# EAGLE library part GPS-FGPMMOPA6C (library gps-gsm)
The FGPMMOPA6E is a revision of PA6 POT (Patch On Top) GPS Module with an extra embedded function for external antenna I/O and comes with automatic antenna switching function and short circuit protection. This POT GPS receiver uses internal patch antenna and will automatically detect and switch over to external antenna for GPS reception once a connection to external antenna is made. In addition, the module itself is protected from short circuits to the external antenna. PA6E is high in position and speed accuracy as well as being high in sensitivity with excellent tracking capabilities in urban conditions. The GPS chipset inside the module is powered by MediaTek Inc., and can support up to 66 channels. The module is suitable for every GPS‐related application such as:
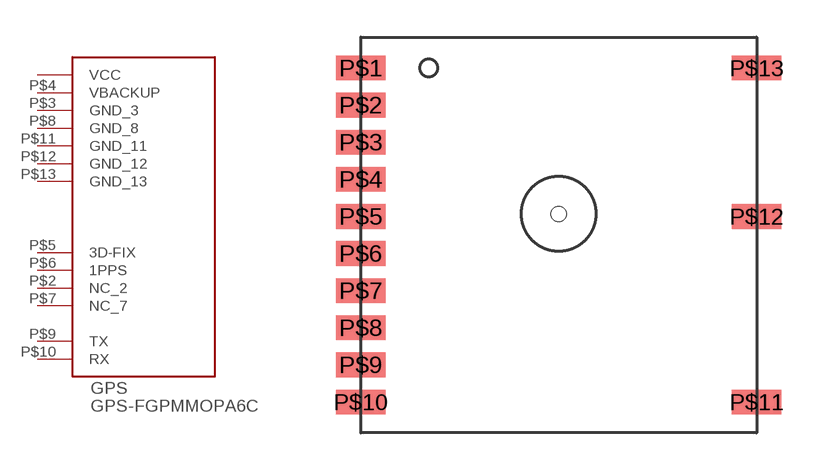
[diagram p14: symbol with the pads of GPS; footprint GPS]

Designator prefix GPS

## GPS-FGPMMOPA6C  [GPS]
P$1  VCC
P$2  NC_2
P$3  GND_3
P$4  VBACKUP
P$5  3D-FIX
P$6  1PPS
P$7  NC_7
P$8  GND_8
P$9  TX
P$10  RX
P$11  GND_11
P$12  GND_12
P$13  GND_13

## Footprint GPS (pad centres in mm)
smd 2 x 1: P$1 -8,6.75; P$2 -8,5.25; P$3 -8,3.75; P$4 -8,2.25; P$5 -8,0.75; P$6 -8,-0.75; P$7 -8,-2.25; P$8 -8,-3.75; P$9 -8,-5.25; P$10 -8,-6.75; P$11 8,-6.75; P$12 8,0.75; P$13 8,6.75
hole 0.6 at 0,0.85